# EAGLE library part ARDUINO_DUE (library ArduinoDue)
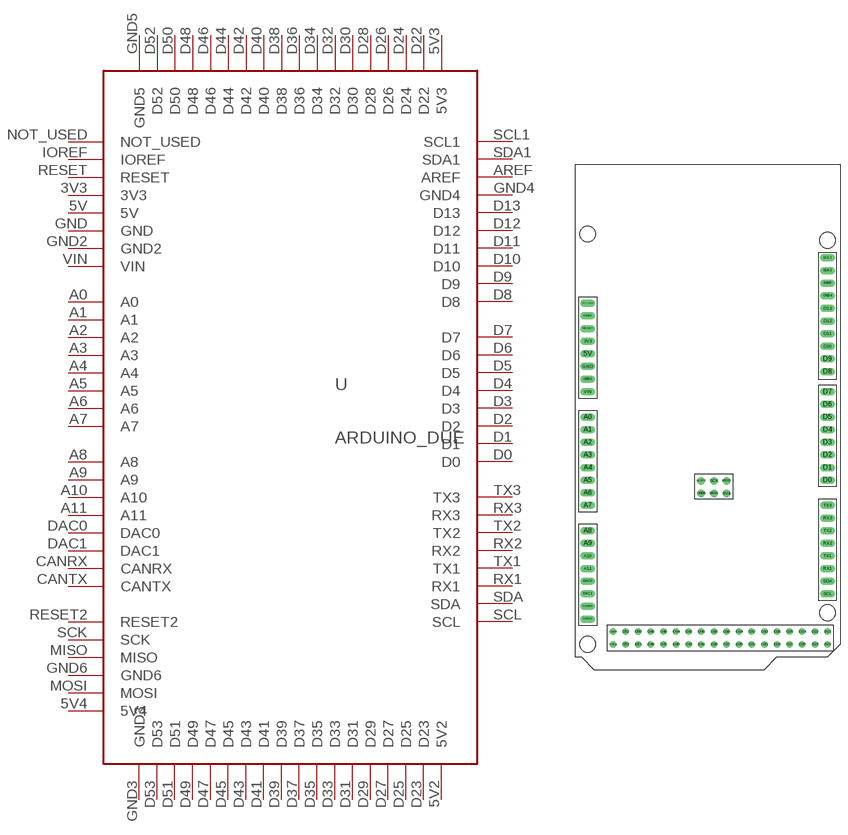
[diagram p0: symbol with the pads of ARDUINO_DUE; footprint ARDUINO_DUE]

Designator prefix -

## ARDUINO_DUE  [ARDUINO_DUE]
3V3  3V3
5V  5V
5V2  5V2
5V3  5V3
5V4  5V4
A0  A0
A1  A1
A2  A2
A3  A3
A4  A4
A5  A5
A6  A6
A7  A7
A8  A8
A9  A9
A10  A10
A11  A11
AREF  AREF
CANRX  CANRX
CANTX  CANTX
D0  D0
D1  D1
D2  D2
D3  D3
D4  D4
D5  D5
D6  D6
D7  D7
D8  D8
D9  D9
D10  D10
D11  D11
D12  D12
D13  D13
D22  D22
D23  D23
D24  D24
D25  D25
D26  D26
D27  D27
D28  D28
D29  D29
D30  D30
D31  D31
D32  D32
D33  D33
D34  D34
D35  D35
D36  D36
D37  D37
D38  D38
D39  D39
D40  D40
D41  D41
D42  D42
D43  D43
D44  D44
D45  D45
D46  D46
D47  D47
D48  D48
D49  D49
D50  D50
D51  D51
D52  D52
D53  D53
DAC0  DAC0
DAC1  DAC1
GND  GND
GND2  GND2
GND3  GND3
GND4  GND4
GND5  GND5
GND6  GND6
IOREF  IOREF
MISO  MISO
MOSI  MOSI
NOT_USED  NOT_USED
RESET  RESET
RESET2  RESET2
RX1  RX1
RX2  RX2
RX3  RX3
SCK  SCK
SCL  SCL
SCL1  SCL1
SDA  SDA
SDA1  SDA1
TX1  TX1
TX2  TX2
TX3  TX3
VIN  VIN

## Footprint ARDUINO_DUE (pad centres in mm)
drill 1 long: 3V3 -8.89,45.72; 5V -8.89,43.18; A0 -8.89,30.48; A1 -8.89,27.94; A2 -8.89,25.4; A3 -8.89,22.86; A4 -8.89,20.32; A5 -8.89,17.78; A6 -8.89,15.24; A7 -8.89,12.7; A8 -8.89,7.62; A9 -8.89,5.08; A10 -8.89,2.54; A11 -8.89,0; AREF 39.37,57.404; CANRX -8.89,-7.62; CANTX -8.89,-10.16; D0 39.37,17.78; D1 39.37,20.32; D2 39.37,22.86; D3 39.37,25.4; D4 39.37,27.94; D5 39.37,30.48; D6 39.37,33.02; D7 39.37,35.56; D8 39.37,39.624; D9 39.37,42.164; D10 39.37,44.704; D11 39.37,47.244; D12 39.37,49.784; D13 39.37,52.324; DAC0 -8.89,-2.54; DAC1 -8.89,-5.08; GND -8.89,40.64; GND2 -8.89,38.1; GND4 39.37,54.864; IOREF -8.89,50.8; NOT_USED -8.89,53.34; RESET -8.89,48.26; RX1 39.37,0; RX2 39.37,5.08; RX3 39.37,10.16; SCL 39.37,-5.08; SCL1 39.37,62.484; SDA 39.37,-2.54; SDA1 39.37,59.944; TX1 39.37,2.54; TX2 39.37,7.62; TX3 39.37,12.7; VIN -8.89,35.56
drill 0.8: 5V2 39.37,-15.24; 5V3 39.37,-12.7; D22 36.83,-12.7; D23 36.83,-15.24; D24 34.29,-12.7; D25 34.29,-15.24; D26 31.75,-12.7; D27 31.75,-15.24; D28 29.21,-12.7; D29 29.21,-15.24; D30 26.67,-12.7; D31 26.67,-15.24; D32 24.13,-12.7; D33 24.13,-15.24; D34 21.59,-12.7; D35 21.59,-15.24; D36 19.05,-12.7; D37 19.05,-15.24; D38 16.51,-12.7; D39 16.51,-15.24; D40 13.97,-12.7; D41 13.97,-15.24; D42 11.43,-12.7; D43 11.43,-15.24; D44 8.89,-12.7; D45 8.89,-15.24; D46 6.35,-12.7; D47 6.35,-15.24; D48 3.81,-12.7; D49 3.81,-15.24; D50 1.27,-12.7; D51 1.27,-15.24; D52 -1.27,-12.7; D53 -1.27,-15.24; GND3 -3.81,-15.24; GND5 -3.81,-12.7
drill 1: 5V4 19.05,15.113; GND6 13.97,15.113; MISO 19.05,17.653; MOSI 16.51,15.113; RESET2 13.97,17.653; SCK 16.51,17.653
hole 3.175 at 39.37,66.04
hole 3.175 at -8.89,67.31
hole 3.175 at -8.89,-15.24
hole 3.175 at 39.37,-8.89